# Altium footprint library Connector_FFC-FPC.PcbLib: 372 footprints (part 18 of 24)
Each footprint in its own frame and in the unit in brackets; x right, y up, seen from the top. Pads: shape width x height; smd on the part's side, far side on the other; paste and mask are expansions set on the pad; w line width, h text height; cw(c..) or ccw(c..) is an arc to the next point about the centre after c.
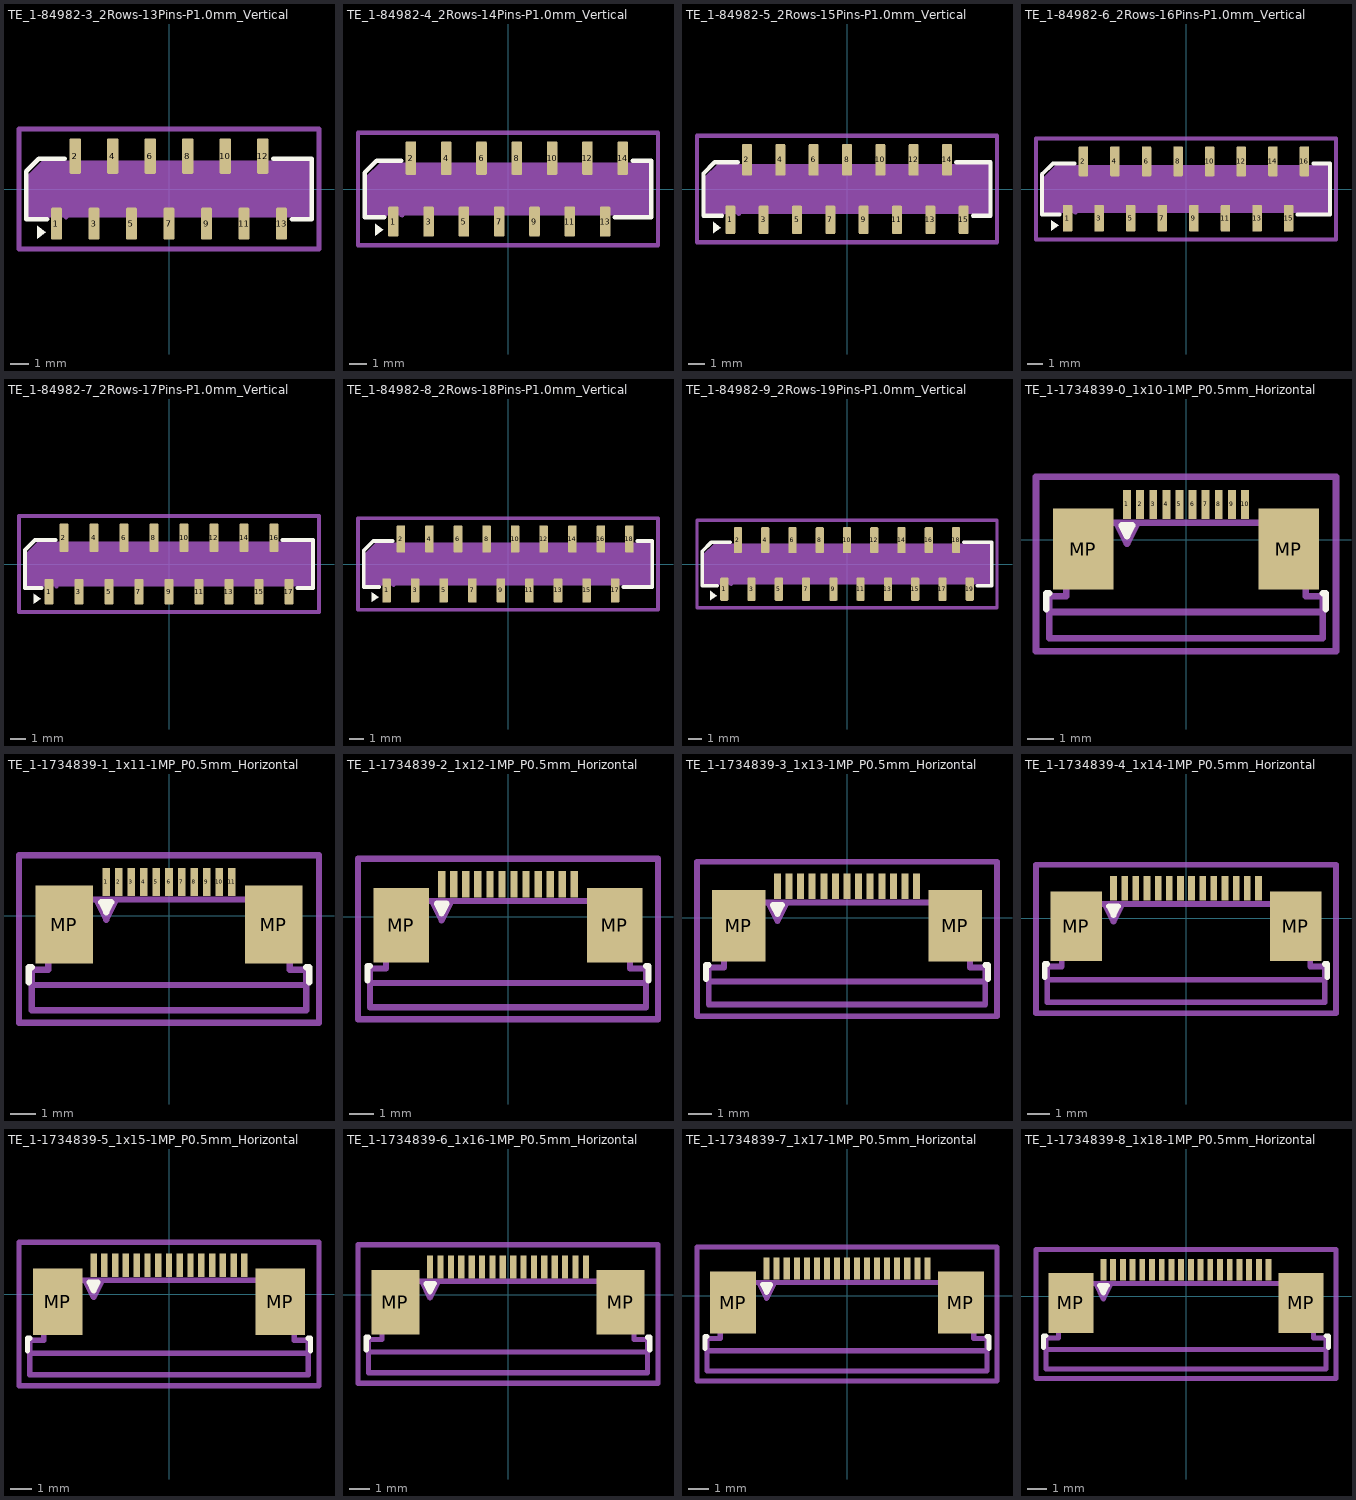
[diagram p17: the footprints below, top view; thin cyan lines are the x and y axes]

## TE_1-84982-3_2Rows-13Pins-P1.0mm_Vertical [mm]
pads (13):
  rrect25% 0.6x1.7 smd: 1(-6,-1.85) 3(-4,-1.85) 5(-2,-1.85) 7(0,-1.85) 9(2,-1.85) 11(4,-1.85) 13(6,-1.85)
  rrect25% 0.6x1.9 smd: 2(-5,1.75) 4(-3,1.75) 6(-1,1.75) 8(1,1.75) 10(3,1.75) 12(5,1.75)
F.SilkS:
  region: -6.56,-2.31 -7.03,-2.65 -7.03,-1.97
  lines w0.254: -6.5,-1.61 -7.61,-1.61 -7.61,0.934 -6.934,1.61 -5.56,1.61 ; 5.56,1.61 7.61,1.61 7.61,-1.61 6.56,-1.61
Top Assembly:
  region: 7.5,-1.5 -7.5,-1.5 -7.5,0.75 -6.75,1.5 7.5,1.5
  lines w0.254: -6.5,-1.5 -6,-0.7 -5.5,-1.5
  text "'.Designator'" at -4.047,-0.84 h1
Top Courtyard:
  lines w0.254: -8,-3.2 8,-3.2 8,3.2 -8,3.2 -8,-3.2
Top Designator:
  text ".Designator" at -7.618,-0.508 h1.52

## TE_1-84982-4_2Rows-14Pins-P1.0mm_Vertical [mm]
pads (14):
  rrect25% 0.6x1.7 smd: 1(-6.5,-1.85) 3(-4.5,-1.85) 5(-2.5,-1.85) 7(-0.5,-1.85) 9(1.5,-1.85) 11(3.5,-1.85) 13(5.5,-1.85)
  rrect25% 0.6x1.9 smd: 2(-5.5,1.75) 4(-3.5,1.75) 6(-1.5,1.75) 8(0.5,1.75) 10(2.5,1.75) 12(4.5,1.75) 14(6.5,1.75)
F.SilkS:
  region: -7.06,-2.31 -7.53,-2.65 -7.53,-1.97
  lines w0.254: -7,-1.61 -8.11,-1.61 -8.11,0.934 -7.434,1.61 -6.06,1.61 ; 6.06,-1.61 8.11,-1.61 8.11,1.61 7.06,1.61
Top Assembly:
  region: 8,-1.5 -8,-1.5 -8,0.75 -7.25,1.5 8,1.5
  lines w0.254: -7,-1.5 -6.5,-0.7 -6,-1.5
  text "'.Designator'" at -4.047,-0.84 h1
Top Courtyard:
  lines w0.254: -8.5,-3.2 8.5,-3.2 8.5,3.2 -8.5,3.2 -8.5,-3.2
Top Designator:
  text ".Designator" at -7.618,-0.508 h1.52

## TE_1-84982-5_2Rows-15Pins-P1.0mm_Vertical [mm]
pads (15):
  rrect25% 0.6x1.7 smd: 1(-7,-1.85) 3(-5,-1.85) 5(-3,-1.85) 7(-1,-1.85) 9(1,-1.85) 11(3,-1.85) 13(5,-1.85) 15(7,-1.85)
  rrect25% 0.6x1.9 smd: 2(-6,1.75) 4(-4,1.75) 6(-2,1.75) 8(0,1.75) 10(2,1.75) 12(4,1.75) 14(6,1.75)
F.SilkS:
  region: -7.56,-2.31 -8.03,-2.65 -8.03,-1.97
  lines w0.254: -7.5,-1.61 -8.61,-1.61 -8.61,0.934 -7.934,1.61 -6.56,1.61 ; 6.56,1.61 8.61,1.61 8.61,-1.61 7.56,-1.61
Top Assembly:
  region: 8.5,-1.5 -8.5,-1.5 -8.5,0.75 -7.75,1.5 8.5,1.5
  lines w0.254: -7.5,-1.5 -7,-0.7 -6.5,-1.5
  text "'.Designator'" at -4.047,-0.84 h1
Top Courtyard:
  lines w0.254: -9,-3.2 9,-3.2 9,3.2 -9,3.2 -9,-3.2
Top Designator:
  text ".Designator" at -7.618,-0.508 h1.52

## TE_1-84982-6_2Rows-16Pins-P1.0mm_Vertical [mm]
pads (16):
  rrect25% 0.6x1.7 smd: 1(-7.5,-1.85) 3(-5.5,-1.85) 5(-3.5,-1.85) 7(-1.5,-1.85) 9(0.5,-1.85) 11(2.5,-1.85) 13(4.5,-1.85) 15(6.5,-1.85)
  rrect25% 0.6x1.9 smd: 2(-6.5,1.75) 4(-4.5,1.75) 6(-2.5,1.75) 8(-0.5,1.75) 10(1.5,1.75) 12(3.5,1.75) 14(5.5,1.75) 16(7.5,1.75)
F.SilkS:
  region: -8.06,-2.31 -8.53,-2.65 -8.53,-1.97
  lines w0.254: -8,-1.61 -9.11,-1.61 -9.11,0.934 -8.434,1.61 -7.06,1.61 ; 7.06,-1.61 9.11,-1.61 9.11,1.61 8.06,1.61
Top Assembly:
  region: 9,-1.5 -9,-1.5 -9,0.75 -8.25,1.5 9,1.5
  lines w0.254: -8,-1.5 -7.5,-0.7 -7,-1.5
  text "'.Designator'" at -4.047,-0.84 h1
Top Courtyard:
  lines w0.254: -9.5,-3.2 9.5,-3.2 9.5,3.2 -9.5,3.2 -9.5,-3.2
Top Designator:
  text ".Designator" at -7.618,-0.508 h1.52

## TE_1-84982-7_2Rows-17Pins-P1.0mm_Vertical [mm]
pads (17):
  rrect25% 0.6x1.7 smd: 1(-8,-1.85) 3(-6,-1.85) 5(-4,-1.85) 7(-2,-1.85) 9(0,-1.85) 11(2,-1.85) 13(4,-1.85) 15(6,-1.85) 17(8,-1.85)
  rrect25% 0.6x1.9 smd: 2(-7,1.75) 4(-5,1.75) 6(-3,1.75) 8(-1,1.75) 10(1,1.75) 12(3,1.75) 14(5,1.75) 16(7,1.75)
F.SilkS:
  region: -8.56,-2.31 -9.03,-2.65 -9.03,-1.97
  lines w0.254: -8.5,-1.61 -9.61,-1.61 -9.61,0.934 -8.934,1.61 -7.56,1.61 ; 7.56,1.61 9.61,1.61 9.61,-1.61 8.56,-1.61
Top Assembly:
  region: 9.5,-1.5 -9.5,-1.5 -9.5,0.75 -8.75,1.5 9.5,1.5
  lines w0.254: -8.5,-1.5 -8,-0.7 -7.5,-1.5
  text "'.Designator'" at -4.047,-0.84 h1
Top Courtyard:
  lines w0.254: -10,-3.2 10,-3.2 10,3.2 -10,3.2 -10,-3.2
Top Designator:
  text ".Designator" at -7.618,-0.508 h1.52

## TE_1-84982-8_2Rows-18Pins-P1.0mm_Vertical [mm]
pads (18):
  rrect25% 0.6x1.7 smd: 1(-8.5,-1.85) 3(-6.5,-1.85) 5(-4.5,-1.85) 7(-2.5,-1.85) 9(-0.5,-1.85) 11(1.5,-1.85) 13(3.5,-1.85) 15(5.5,-1.85) 17(7.5,-1.85)
  rrect25% 0.6x1.9 smd: 2(-7.5,1.75) 4(-5.5,1.75) 6(-3.5,1.75) 8(-1.5,1.75) 10(0.5,1.75) 12(2.5,1.75) 14(4.5,1.75) 16(6.5,1.75) 18(8.5,1.75)
F.SilkS:
  region: -9.06,-2.31 -9.53,-2.65 -9.53,-1.97
  lines w0.254: -9,-1.61 -10.11,-1.61 -10.11,0.934 -9.434,1.61 -8.06,1.61 ; 8.06,-1.61 10.11,-1.61 10.11,1.61 9.06,1.61
Top Assembly:
  region: 10,-1.5 -10,-1.5 -10,0.75 -9.25,1.5 10,1.5
  lines w0.254: -9,-1.5 -8.5,-0.7 -8,-1.5
  text "'.Designator'" at -4.047,-0.84 h1
Top Courtyard:
  lines w0.254: -10.5,-3.2 10.5,-3.2 10.5,3.2 -10.5,3.2 -10.5,-3.2
Top Designator:
  text ".Designator" at -7.618,-0.508 h1.52

## TE_1-84982-9_2Rows-19Pins-P1.0mm_Vertical [mm]
pads (19):
  rrect25% 0.6x1.7 smd: 1(-9,-1.85) 3(-7,-1.85) 5(-5,-1.85) 7(-3,-1.85) 9(-1,-1.85) 11(1,-1.85) 13(3,-1.85) 15(5,-1.85) 17(7,-1.85) 19(9,-1.85)
  rrect25% 0.6x1.9 smd: 2(-8,1.75) 4(-6,1.75) 6(-4,1.75) 8(-2,1.75) 10(0,1.75) 12(2,1.75) 14(4,1.75) 16(6,1.75) 18(8,1.75)
F.SilkS:
  region: -9.56,-2.31 -10.03,-2.65 -10.03,-1.97
  lines w0.254: -9.5,-1.61 -10.61,-1.61 -10.61,0.934 -9.934,1.61 -8.56,1.61 ; 8.56,1.61 10.61,1.61 10.61,-1.61 9.56,-1.61
Top Assembly:
  region: 10.5,-1.5 -10.5,-1.5 -10.5,0.75 -9.75,1.5 10.5,1.5
  lines w0.254: -9.5,-1.5 -9,-0.7 -8.5,-1.5
  text "'.Designator'" at -4.047,-0.84 h1
Top Courtyard:
  lines w0.254: -11,-3.2 11,-3.2 11,3.2 -11,3.2 -11,-3.2
Top Designator:
  text ".Designator" at -7.618,-0.508 h1.52

## TE_1-1734839-0_1x10-1MP_P0.5mm_Horizontal [mm]
pads (12):
  rect 0.3x1.1 smd: 1(-2.25,1.35) 2(-1.75,1.35) 3(-1.25,1.35) 4(-0.75,1.35) 5(-0.25,1.35) 6(0.25,1.35) 7(0.75,1.35) 8(1.25,1.35) 9(1.75,1.35) 10(2.25,1.35)
  rect 2.3x3.1 smd: MP(-3.92,-0.35) MP(3.92,-0.35)
F.SilkS:
  lines w0.254: -5.325,-2.64 -5.325,-2.04 -5.215,-2.04 ; 5.215,-2.04 5.325,-2.04 5.325,-2.64 ; -2.45,0.55 -2.05,0.55 -2.25,0.15 -2.45,0.55
Top Assembly:
  lines w0.254: -2.65,0.65 -2.25,-0.15 -1.85,0.65 ; -5.215,-3.75 5.215,-3.75 5.215,-2.15 4.56,-2.15 4.56,0.65 -4.56,0.65 -4.56,-2.15 -5.215,-2.15 -5.215,-3.75
  text "'.Designator'" at -4.047,-2.39 h1
Top Courtyard:
  lines w0.254: -5.72,-4.25 5.72,-4.25 5.72,2.41 -5.72,2.41 -5.72,-4.25
Top Designator:
  text ".Designator" at -7.618,-1.428 h1.52
Dwgs.User:
  lines w0.254: -5.105,-2.75 5.105,-2.75
  text "PCB Edge" at -1.728,-3.663 h0.5

## TE_1-1734839-1_1x11-1MP_P0.5mm_Horizontal [mm]
pads (13):
  rect 0.3x1.1 smd: 1(-2.5,1.35) 2(-2,1.35) 3(-1.5,1.35) 4(-1,1.35) 5(-0.5,1.35) 6(0,1.35) 7(0.5,1.35) 8(1,1.35) 9(1.5,1.35) 10(2,1.35) 11(2.5,1.35)
  rect 2.3x3.1 smd: MP(-4.17,-0.35) MP(4.17,-0.35)
F.SilkS:
  lines w0.254: -5.575,-2.64 -5.575,-2.04 -5.465,-2.04 ; 5.465,-2.04 5.575,-2.04 5.575,-2.64 ; -2.7,0.55 -2.3,0.55 -2.5,0.15 -2.7,0.55
Top Assembly:
  lines w0.254: -2.9,0.65 -2.5,-0.15 -2.1,0.65 ; -5.465,-3.75 5.465,-3.75 5.465,-2.15 4.81,-2.15 4.81,0.65 -4.81,0.65 -4.81,-2.15 -5.465,-2.15 -5.465,-3.75
  text "'.Designator'" at -4.047,-2.39 h1
Top Courtyard:
  lines w0.254: -5.97,-4.25 5.97,-4.25 5.97,2.41 -5.97,2.41 -5.97,-4.25
Top Designator:
  text ".Designator" at -7.618,-1.428 h1.52
Dwgs.User:
  lines w0.254: -5.355,-2.75 5.355,-2.75
  text "PCB Edge" at -1.728,-3.663 h0.5

## TE_1-1734839-2_1x12-1MP_P0.5mm_Horizontal [mm]
pads (14):
  rect 0.3x1.1 smd: 1(-2.75,1.35) 2(-2.25,1.35) 3(-1.75,1.35) 4(-1.25,1.35) 5(-0.75,1.35) 6(-0.25,1.35) 7(0.25,1.35) 8(0.75,1.35) 9(1.25,1.35) 10(1.75,1.35) 11(2.25,1.35) 12(2.75,1.35)
  rect 2.3x3.1 smd: MP(-4.42,-0.35) MP(4.42,-0.35)
F.SilkS:
  lines w0.254: -5.825,-2.64 -5.825,-2.04 -5.715,-2.04 ; 5.715,-2.04 5.825,-2.04 5.825,-2.64 ; -2.95,0.55 -2.55,0.55 -2.75,0.15 -2.95,0.55
Top Assembly:
  lines w0.254: -3.15,0.65 -2.75,-0.15 -2.35,0.65 ; -5.715,-3.75 5.715,-3.75 5.715,-2.15 5.06,-2.15 5.06,0.65 -5.06,0.65 -5.06,-2.15 -5.715,-2.15 -5.715,-3.75
  text "'.Designator'" at -4.047,-2.39 h1
Top Courtyard:
  lines w0.254: -6.22,-4.25 6.22,-4.25 6.22,2.41 -6.22,2.41 -6.22,-4.25
Top Designator:
  text ".Designator" at -7.618,-1.428 h1.52
Dwgs.User:
  lines w0.254: -5.605,-2.75 5.605,-2.75
  text "PCB Edge" at -1.728,-3.663 h0.5

## TE_1-1734839-3_1x13-1MP_P0.5mm_Horizontal [mm]
pads (15):
  rect 0.3x1.1 smd: 1(-3,1.35) 2(-2.5,1.35) 3(-2,1.35) 4(-1.5,1.35) 5(-1,1.35) 6(-0.5,1.35) 7(0,1.35) 8(0.5,1.35) 9(1,1.35) 10(1.5,1.35) 11(2,1.35) 12(2.5,1.35) 13(3,1.35)
  rect 2.3x3.1 smd: MP(-4.67,-0.35) MP(4.67,-0.35)
F.SilkS:
  lines w0.254: -6.075,-2.64 -6.075,-2.04 -5.965,-2.04 ; 5.965,-2.04 6.075,-2.04 6.075,-2.64 ; -3.2,0.55 -2.8,0.55 -3,0.15 -3.2,0.55
Top Assembly:
  lines w0.254: -3.4,0.65 -3,-0.15 -2.6,0.65 ; -5.965,-3.75 5.965,-3.75 5.965,-2.15 5.31,-2.15 5.31,0.65 -5.31,0.65 -5.31,-2.15 -5.965,-2.15 -5.965,-3.75
  text "'.Designator'" at -4.047,-2.39 h1
Top Courtyard:
  lines w0.254: -6.47,-4.25 6.47,-4.25 6.47,2.41 -6.47,2.41 -6.47,-4.25
Top Designator:
  text ".Designator" at -7.618,-1.428 h1.52
Dwgs.User:
  lines w0.254: -5.855,-2.75 5.855,-2.75
  text "PCB Edge" at -1.728,-3.663 h0.5

## TE_1-1734839-4_1x14-1MP_P0.5mm_Horizontal [mm]
pads (16):
  rect 0.3x1.1 smd: 1(-3.25,1.35) 2(-2.75,1.35) 3(-2.25,1.35) 4(-1.75,1.35) 5(-1.25,1.35) 6(-0.75,1.35) 7(-0.25,1.35) 8(0.25,1.35) 9(0.75,1.35) 10(1.25,1.35) 11(1.75,1.35) 12(2.25,1.35) 13(2.75,1.35) 14(3.25,1.35)
  rect 2.3x3.1 smd: MP(-4.92,-0.35) MP(4.92,-0.35)
F.SilkS:
  lines w0.254: -6.325,-2.64 -6.325,-2.04 -6.215,-2.04 ; 6.215,-2.04 6.325,-2.04 6.325,-2.64 ; -3.45,0.55 -3.05,0.55 -3.25,0.15 -3.45,0.55
Top Assembly:
  lines w0.254: -3.65,0.65 -3.25,-0.15 -2.85,0.65 ; -6.215,-3.75 6.215,-3.75 6.215,-2.15 5.56,-2.15 5.56,0.65 -5.56,0.65 -5.56,-2.15 -6.215,-2.15 -6.215,-3.75
  text "'.Designator'" at -4.047,-2.39 h1
Top Courtyard:
  lines w0.254: -6.72,-4.25 6.72,-4.25 6.72,2.41 -6.72,2.41 -6.72,-4.25
Top Designator:
  text ".Designator" at -7.618,-1.428 h1.52
Dwgs.User:
  lines w0.254: -6.105,-2.75 6.105,-2.75
  text "PCB Edge" at -1.728,-3.663 h0.5

## TE_1-1734839-5_1x15-1MP_P0.5mm_Horizontal [mm]
pads (17):
  rect 0.3x1.1 smd: 1(-3.5,1.35) 2(-3,1.35) 3(-2.5,1.35) 4(-2,1.35) 5(-1.5,1.35) 6(-1,1.35) 7(-0.5,1.35) 8(0,1.35) 9(0.5,1.35) 10(1,1.35) 11(1.5,1.35) 12(2,1.35) 13(2.5,1.35) 14(3,1.35) 15(3.5,1.35)
  rect 2.3x3.1 smd: MP(-5.17,-0.35) MP(5.17,-0.35)
F.SilkS:
  lines w0.254: -6.575,-2.64 -6.575,-2.04 -6.465,-2.04 ; 6.465,-2.04 6.575,-2.04 6.575,-2.64 ; -3.7,0.55 -3.3,0.55 -3.5,0.15 -3.7,0.55
Top Assembly:
  lines w0.254: -3.9,0.65 -3.5,-0.15 -3.1,0.65 ; -6.465,-3.75 6.465,-3.75 6.465,-2.15 5.81,-2.15 5.81,0.65 -5.81,0.65 -5.81,-2.15 -6.465,-2.15 -6.465,-3.75
  text "'.Designator'" at -4.047,-2.39 h1
Top Courtyard:
  lines w0.254: -6.97,-4.25 6.97,-4.25 6.97,2.41 -6.97,2.41 -6.97,-4.25
Top Designator:
  text ".Designator" at -7.618,-1.428 h1.52
Dwgs.User:
  lines w0.254: -6.355,-2.75 6.355,-2.75
  text "PCB Edge" at -1.728,-3.663 h0.5

## TE_1-1734839-6_1x16-1MP_P0.5mm_Horizontal [mm]
pads (18):
  rect 0.3x1.1 smd: 1(-3.75,1.35) 2(-3.25,1.35) 3(-2.75,1.35) 4(-2.25,1.35) 5(-1.75,1.35) 6(-1.25,1.35) 7(-0.75,1.35) 8(-0.25,1.35) 9(0.25,1.35) 10(0.75,1.35) 11(1.25,1.35) 12(1.75,1.35) 13(2.25,1.35) 14(2.75,1.35) 15(3.25,1.35) 16(3.75,1.35)
  rect 2.3x3.1 smd: MP(-5.42,-0.35) MP(5.42,-0.35)
F.SilkS:
  lines w0.254: -6.825,-2.64 -6.825,-2.04 -6.715,-2.04 ; 6.715,-2.04 6.825,-2.04 6.825,-2.64 ; -3.95,0.55 -3.55,0.55 -3.75,0.15 -3.95,0.55
Top Assembly:
  lines w0.254: -4.15,0.65 -3.75,-0.15 -3.35,0.65 ; -6.715,-3.75 6.715,-3.75 6.715,-2.15 6.06,-2.15 6.06,0.65 -6.06,0.65 -6.06,-2.15 -6.715,-2.15 -6.715,-3.75
  text "'.Designator'" at -4.047,-2.39 h1
Top Courtyard:
  lines w0.254: -7.22,-4.25 7.22,-4.25 7.22,2.41 -7.22,2.41 -7.22,-4.25
Top Designator:
  text ".Designator" at -7.618,-1.428 h1.52
Dwgs.User:
  lines w0.254: -6.605,-2.75 6.605,-2.75
  text "PCB Edge" at -1.728,-3.663 h0.5

## TE_1-1734839-7_1x17-1MP_P0.5mm_Horizontal [mm]
pads (19):
  rect 0.3x1.1 smd: 1(-4,1.35) 2(-3.5,1.35) 3(-3,1.35) 4(-2.5,1.35) 5(-2,1.35) 6(-1.5,1.35) 7(-1,1.35) 8(-0.5,1.35) 9(0,1.35) 10(0.5,1.35) 11(1,1.35) 12(1.5,1.35) 13(2,1.35) 14(2.5,1.35) 15(3,1.35) 16(3.5,1.35) 17(4,1.35)
  rect 2.3x3.1 smd: MP(-5.67,-0.35) MP(5.67,-0.35)
F.SilkS:
  lines w0.254: -7.075,-2.64 -7.075,-2.04 -6.965,-2.04 ; 6.965,-2.04 7.075,-2.04 7.075,-2.64 ; -4.2,0.55 -3.8,0.55 -4,0.15 -4.2,0.55
Top Assembly:
  lines w0.254: -4.4,0.65 -4,-0.15 -3.6,0.65 ; -6.965,-3.75 6.965,-3.75 6.965,-2.15 6.31,-2.15 6.31,0.65 -6.31,0.65 -6.31,-2.15 -6.965,-2.15 -6.965,-3.75
  text "'.Designator'" at -4.047,-2.39 h1
Top Courtyard:
  lines w0.254: -7.47,-4.25 7.47,-4.25 7.47,2.41 -7.47,2.41 -7.47,-4.25
Top Designator:
  text ".Designator" at -7.618,-1.428 h1.52
Dwgs.User:
  lines w0.254: -6.855,-2.75 6.855,-2.75
  text "PCB Edge" at -1.728,-3.663 h0.5

## TE_1-1734839-8_1x18-1MP_P0.5mm_Horizontal [mm]
pads (20):
  rect 0.3x1.1 smd: 1(-4.25,1.35) 2(-3.75,1.35) 3(-3.25,1.35) 4(-2.75,1.35) 5(-2.25,1.35) 6(-1.75,1.35) 7(-1.25,1.35) 8(-0.75,1.35) 9(-0.25,1.35) 10(0.25,1.35) 11(0.75,1.35) 12(1.25,1.35) 13(1.75,1.35) 14(2.25,1.35) 15(2.75,1.35) 16(3.25,1.35) 17(3.75,1.35) 18(4.25,1.35)
  rect 2.3x3.1 smd: MP(-5.92,-0.35) MP(5.92,-0.35)
F.SilkS:
  lines w0.254: -7.325,-2.64 -7.325,-2.04 -7.215,-2.04 ; 7.215,-2.04 7.325,-2.04 7.325,-2.64 ; -4.45,0.55 -4.05,0.55 -4.25,0.15 -4.45,0.55
Top Assembly:
  lines w0.254: -4.65,0.65 -4.25,-0.15 -3.85,0.65 ; -7.215,-3.75 7.215,-3.75 7.215,-2.15 6.56,-2.15 6.56,0.65 -6.56,0.65 -6.56,-2.15 -7.215,-2.15 -7.215,-3.75
  text "'.Designator'" at -4.047,-2.39 h1
Top Courtyard:
  lines w0.254: -7.72,-4.25 7.72,-4.25 7.72,2.41 -7.72,2.41 -7.72,-4.25
Top Designator:
  text ".Designator" at -7.618,-1.428 h1.52
Dwgs.User:
  lines w0.254: -7.105,-2.75 7.105,-2.75
  text "PCB Edge" at -1.728,-3.663 h0.5